# Altium schematic symbol library ICs.SchLib: 21 symbols
Pins are listed as number, name and electrical type; pins without a type are passive.

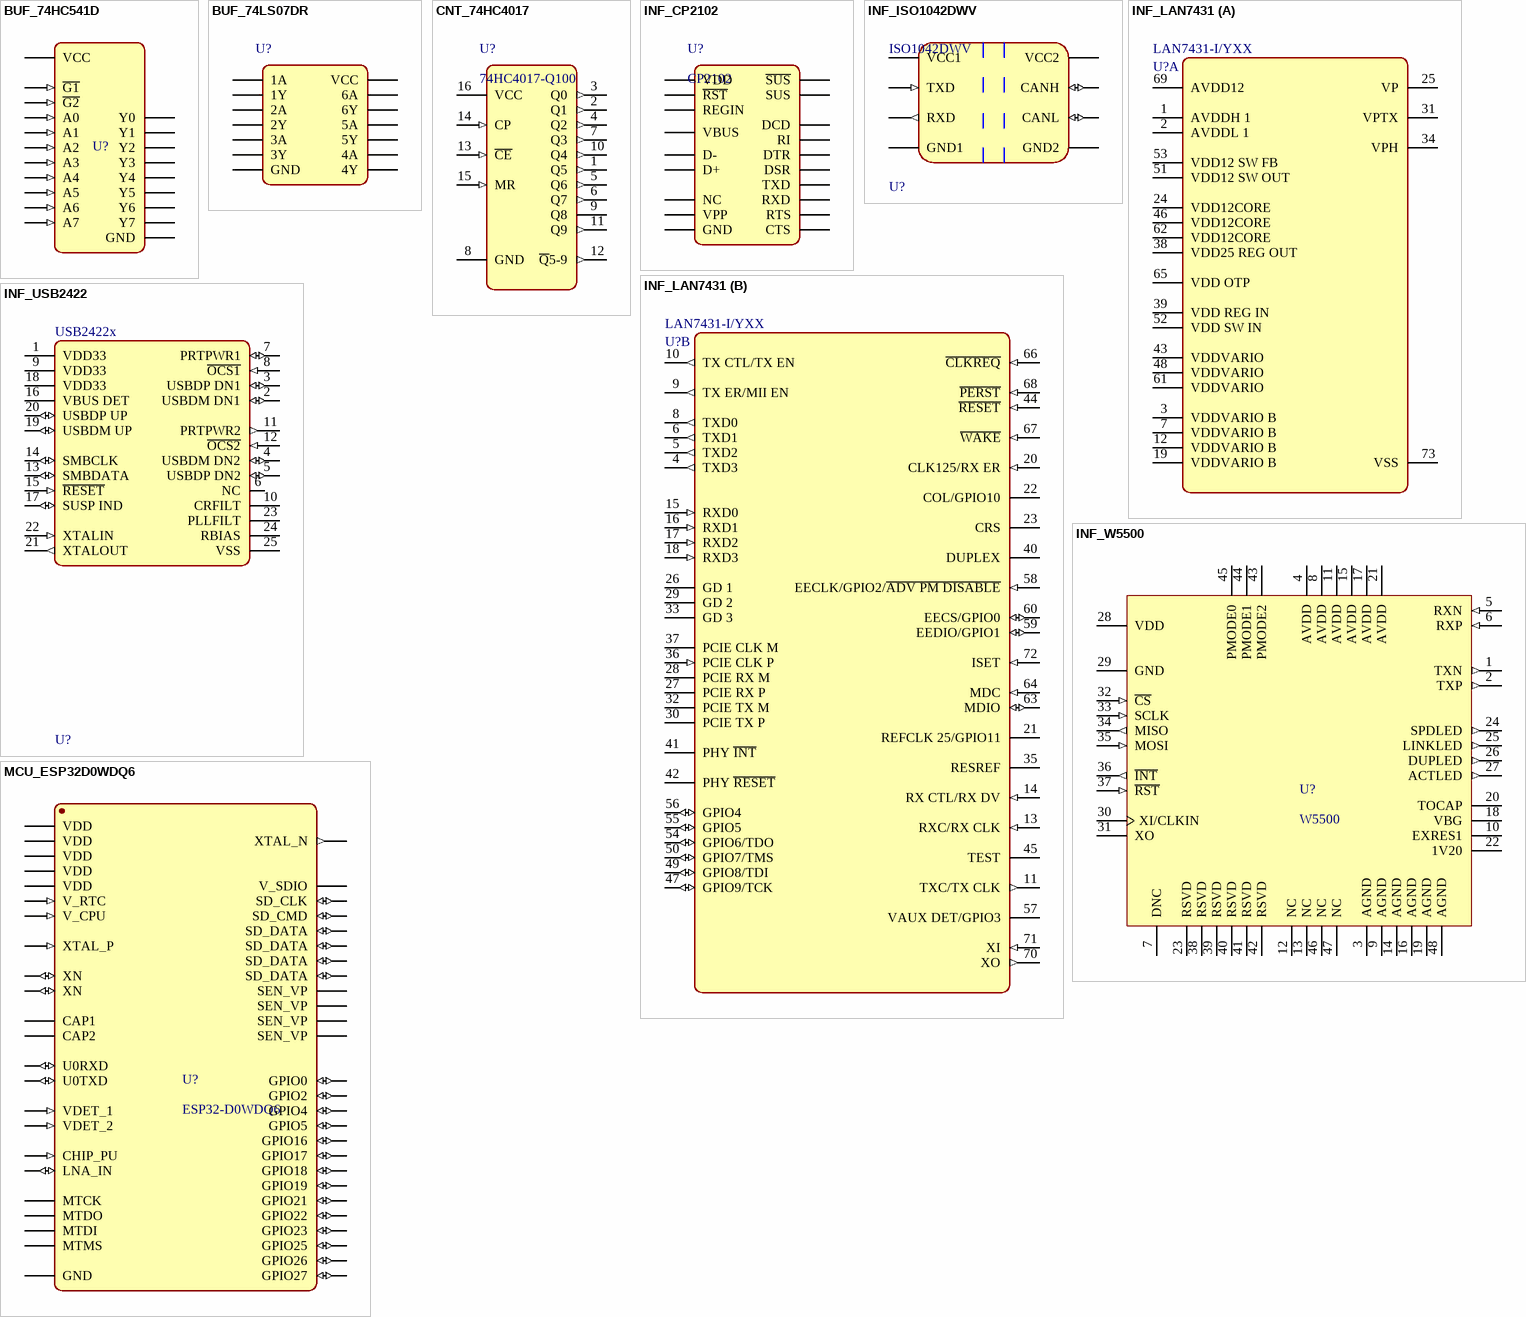
[diagram p0: symbols BUF_74HC541D to MCU_ESP32D0WDQ6]

## BUF_74HC541D
designator U?, comment 74HC541D  (value not drawn)
Buffer, Non-Inverting 8 Element 3-State Output 20-SOIC; JLCPCB Part: ?; LCSC Part: ?; Mrf. Part: ?
footprint BUF_74HC541D
pins: 1 ~{G1} (in), 2 A0 (in), 3 A1 (in), 4 A2 (in), 5 A3 (in), 6 A4 (in), 7 A5 (in), 8 A6 (in), 9 A7 (in), 10 GND (power), 11 Y7 (power), 12 Y6 (power), 13 Y5 (power), 14 Y4 (power), 15 Y3 (power), 16 Y2 (power), 17 Y1 (power), 18 Y0 (power), 19 ~{G2} (in), 20 VCC (power)

## BUF_74LS07DR
designator U?, comment SN74LS07DR  (value not drawn)
Buffer, Non-Inverting 6 Element Open Collector Output 14-SOIC; JLCPCB Part: ?; LCSC Part: ?; Mrf. Part: ?
footprint BUF_74LS07DR (SOIC, 14-Leads, Body 8.75x4mm, Pitch 1.27mm, IPC Low Density)
pins: 1 1A, 2 1Y, 3 2A, 4 2Y, 5 3A, 6 3Y, 7 GND, 8 4Y, 9 4A, 10 5Y, 11 5A, 12 6Y, 13 6A, 14 VCC

## CNT_74HC4017
designator U?, comment 74HC4017-Q100
Counter IC Counter, Decade 1 Element 10 Bit Positive, Negative 16-SO; Mrf. Part: ?; LCSC Part: ?; JLCPCB Part: ?
footprint CNT_74HC4017
pins: 1 Q5 (out), 2 Q1 (out), 3 Q0 (out), 4 Q2 (out), 5 Q6 (out), 6 Q7 (out), 7 Q3 (out), 8 GND (power), 9 Q8 (power), 10 Q4 (out), 11 Q9 (out), 12 ~{Q}5-9 (out), 13 ~{CE} (in), 14 CP (in), 15 MR (in), 16 VCC (power)

## INF_CP2102
designator U?, comment CP2102
USB to UART bridge USB 2.0 3.3V, CP2102-GMR, VFQFN-28; Mrf. Part: ?; LCSC Part: *; JLCPCB Part: ?
footprint INF_CP2102
pins: 1 DCD, 2 RI, 3 GND, 4 D+, 5 D-, 6 VDD, 7 REGIN, 8 VBUS, 9 ~{RST}, 10,13,14,15,16,17,19,20,21,22 NC, 11 ~{SUS}, 12 SUS, 18 VPP, 23 CTS, 24 RTS, 25 RXD, 26 TXD, 27 DSR, 28 DTR

## INF_ISO1042DWV
designator U?, comment ISO1042DWV
5Mbps Transceiver SOIC-8 CANFD Transceivers; JLCPCB Part: ?; LCSC Part: ?; Mfr. Part: ISO1042DWV
footprint INF_ISO1042DWV
pins: 1 VCC1 (power), 2 TXD (in), 3 RXD (out), 4 GND1 (power), 5 GND2 (power), 6 CANL (io), 7 CANH (io), 8 VCC2 (power)

## INF_LAN7431
designator U?, comment LAN7431-I/YXX
PCIe to Gigabit Ethernet Controller; JLCPCB  Part: ?; Mrf. Part: ?; LCSC Part: ?
footprint INF_LAN7431_IYXX
part A pins: 1 AVDDH 1 (power), 2 AVDDL 1 (power), 3 VDDVARIO B (power), 7 VDDVARIO B (power), 12 VDDVARIO B (power), 19 VDDVARIO B (power), 24 VDD12CORE (power), 25 VP, 31 VPTX, 34 VPH, 38 VDD25 REG OUT (power), 39 VDD REG IN (power), 43 VDDVARIO (power), 46 VDD12CORE (power), 48 VDDVARIO (power), 51 VDD12 SW OUT (power), 52 VDD SW IN (power), 53 VDD12 SW FB (power), 61 VDDVARIO (power), 62 VDD12CORE (power), 65 VDD OTP (power), 69 AVDD12 (power), 73 VSS (power)
part B pins: 4 TXD3 (out), 5 TXD2 (out), 6 TXD1 (out), 8 TXD0 (out), 9 TX ER/MII EN (out), 10 TX CTL/TX EN (out), 11 TXC/TX CLK (out), 13 RXC/RX CLK (in), 14 RX CTL/RX DV (in), 15 RXD0 (in), 16 RXD1 (in), 17 RXD2 (in), 18 RXD3 (in), 20 CLK125/RX ER (in), 21 REFCLK 25/GPIO11, 22 COL/GPIO10, 23 CRS, 26 GD 1, 27 PCIE RX P, 28 PCIE RX M, 29 GD 2, 30 PCIE TX P, 32 PCIE TX M, 33 GD 3, 35 RESREF, 36 PCIE CLK P (in), 37 PCIE CLK M (power), 40 DUPLEX, 41 PHY ~{INT}, 42 PHY ~{RESET}, 44 ~{RESET} (in), 45 TEST, 47 GPIO9/TCK (io), 49 GPIO8/TDI (io), 50 GPIO7/TMS (io), 54 GPIO6/TDO (io), 55 GPIO5 (io), 56 GPIO4 (io), 57 VAUX DET/GPIO3, 58 EECLK/GPIO2/~{ADV PM DISABLE} (in), 59 EEDIO/GPIO1 (io), 60 EECS/GPIO0 (io), 63 MDIO (io), 64 MDC (in), 66 ~{CLKREQ} (in), 67 ~{WAKE} (in), 68 ~{PERST} (in), 70 XO (out), 71 XI (in), 72 ISET (in)

## INF_USB2422
designator U?, comment USB2422x
USB 2.0 HUB CTLR 24QFN; JLCPCB Part: ?; LCSC Part: ?; Mrf. Part: ?
footprint INF_USB2422
pins: 1 VDD33 (power), 2 USBDM DN1 (io), 3 USBDP DN1 (io), 4 USBDM DN2 (io), 5 USBDP DN2 (io), 6 NC, 7 PRTPWR1 (io), 8 ~{OCS1} (in), 9 VDD33 (power), 10 CRFILT, 11 PRTPWR2 (out), 12 ~{OCS2} (in), 13 SMBDATA (io), 14 SMBCLK (io), 15 ~{RESET} (in), 16 VBUS DET (power), 17 SUSP IND (io), 18 VDD33 (power), 19 USBDM UP (io), 20 USBDP UP (io), 21 XTALOUT (out), 22 XTALIN (in), 23 PLLFILT, 24 RBIAS, 25 VSS (power)

## INF_W5500
designator U?, comment W5500
W5500 Ethernet Controller 10/100 Base-T/TX PHY SPI Interface
footprint INF_W5500 (QFP, 48-Leads, Body 7,00x7,00mm, Pitch 0,50mm, IPC Medium Density)
pins: 1 TXN (out), 2 TXP (out), 3 AGND (power), 4 AVDD (power), 5 RXN (in), 6 RXP (in), 7 DNC, 8 AVDD (power), 9 AGND (power), 10 EXRES1, 11 AVDD (power), 12 NC, 13 NC, 14 AGND (power), 15 AVDD (power), 16 AGND (power), 17 AVDD (power), 18 VBG (power), 19 AGND (power), 20 TOCAP, 21 AVDD (power), 22 1V20 (power), 23 RSVD, 24 SPDLED (out), 25 LINKLED (out), 26 DUPLED (out), 27 ACTLED (out), 28 VDD (power), 29 GND (power), 30 XI/CLKIN, 31 XO, 32 ~{CS} (in), 33 SCLK (in), 34 MISO (out), 35 MOSI (in), 36 ~{INT} (out), 37 ~{RST} (in), 38 RSVD, 39 RSVD, 40 RSVD, 41 RSVD, 42 RSVD, 43 PMODE2, 44 PMODE1, 45 PMODE0, 46 NC, 47 NC, 48 AGND (power)

## MCU_ESP32D0WDQ6
designator U?, comment ESP32-D0WDQ6
Xtensa® single-/dual-core 32-bit LX6 microprocessor(s); Mrf. Part: ?; LCSC Part: ?; JLCPCB Part: ?
footprint MCU_ESP32_D0WDQ6_V3
pins: 1 VDD, 2 LNA_IN (io), 3 VDD, 4 VDD, 5 SEN_VP, 6 SEN_VP, 7 SEN_VP, 8 SEN_VP, 9 CHIP_PU (in), 10 VDET_1 (in), 11 VDET_2 (in), 12 XN (io), 13 XN (io), 14 GPIO25 (io), 15 GPIO26 (io), 16 GPIO27 (io), 17 MTMS, 18 MTDI, 19 V_RTC (in), 20 MTCK, 21 MTDO, 22 GPIO2 (io), 23 GPIO0 (io), 24 GPIO4 (io), 25 GPIO16 (io), 26 V_SDIO (power), 27 GPIO17 (io), 28 SD_DATA (io), 29 SD_DATA (io), 30 SD_CMD (io), 31 SD_CLK (io), 32 SD_DATA (io), 33 SD_DATA (io), 34 GPIO5 (io), 35 GPIO18 (io), 36 GPIO23 (io), 37 V_CPU (in), 38 GPIO19 (io), 39 GPIO22 (io), 40 U0RXD (io), 41 U0TXD (io), 42 GPIO21 (io), 43 VDD, 44 XTAL_N (out), 45 XTAL_P (in), 46 VDD, 47 CAP2, 48 CAP1, 49 GND

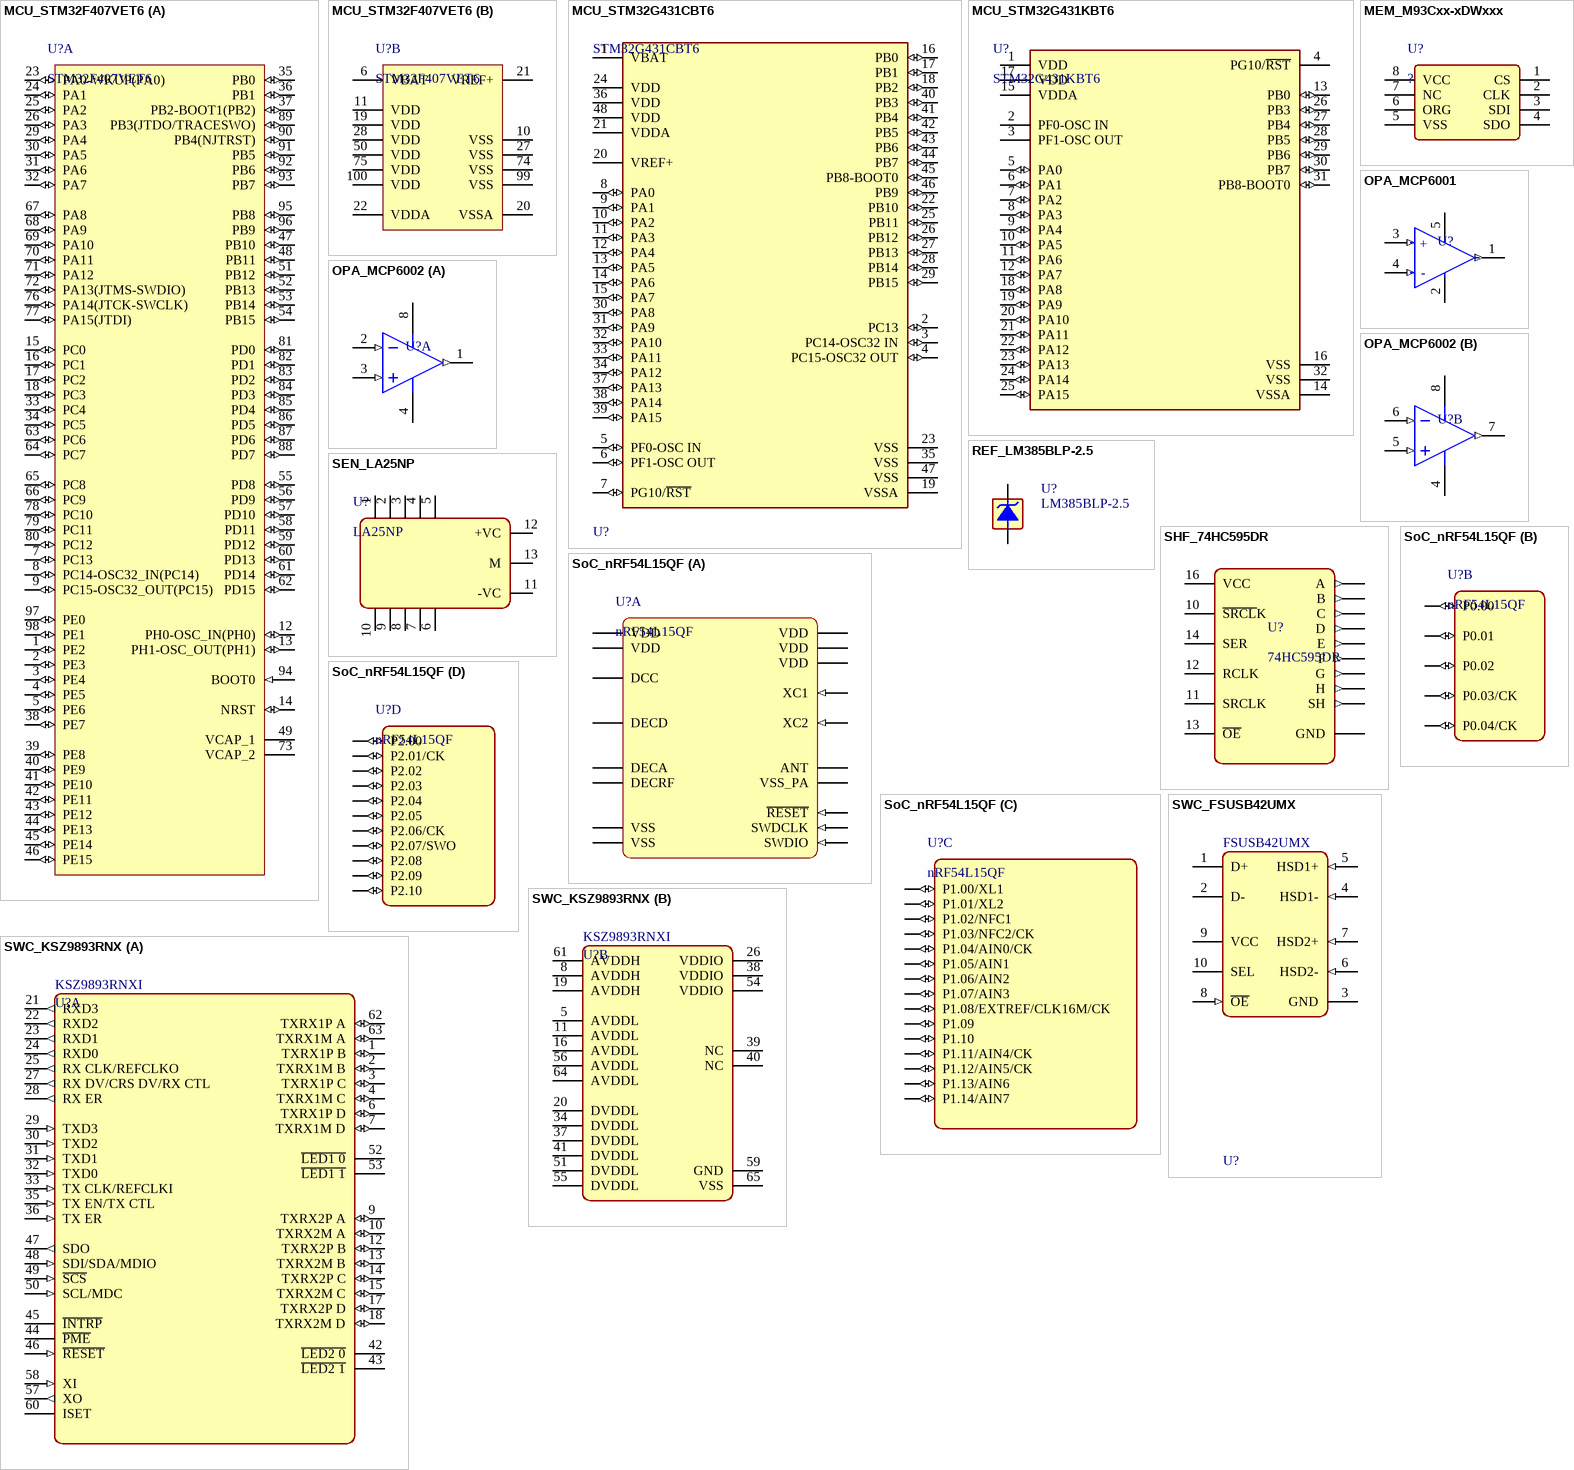
[diagram p1: symbols MCU_STM32F407VET6 to SWC_KSZ9893RNX]

## MCU_STM32F407VET6
designator U?, comment STM32F407VET6
ARM® Cortex®-M4 STM32F4 32-bit, 512 kB Flash, 192 kB Internal RAM, 82 I/Os, 100-pin LQFP; ComponentLink1URL: http://www.st.com/web/en/home.html; ComponentLink1Description: Manufacturer URL; ComponentLink2Description: Datasheet; ComponentLink2URL: http://www.st.com/st-web-ui/static/active/en/resource/technical/document/datasheet/DM00037051.pdf; ComponentLink3Description: Package Specification; ComponentLink3URL: http://www.st.com/st-web-ui/static/active/en/resource/technical/document/data_brief/DM00071938.pdf; JLCPCB Part: ?; MFR.Part: ?; LCSC Part: ?
footprint MCU_STM32F407VET6
part A pins: 1 PE2 (io) "PE2/TRACECLK/FSMC_A23/ETH_MII_TXD3/EVENTOUT", 2 PE3 (io) "PE3/TRACED0/FSMC_A19/EVENTOUT", 3 PE4 (io) "PE4/TRACED1/FSMC_A20/DCMI_D4/EVENTOUT", 4 PE5 (io) "PE5/TRACED2/FSMC_A21/TIM9_CH1/DCMI_D6/EVENTOUT", 5 PE6 (io) "PE6/TRACED3/FSMC_A22/TIM9_CH2/DCMI_D7/EVENTOUT", 7 PC13 (io) "PC13/EVENTOUT/RTC_OUT,RTC_TAMP1,RTC_TS", 8 PC14-OSC32_IN(PC14) (io) "PC14-OSC32_IN(PC14)/EVENTOUT/OSC32_IN", 9 PC15-OSC32_OUT(PC15) (io) "PC15-OSC32_OUT(PC15)/EVENTOUT/OSC32_OUT", 12 PH0-OSC_IN(PH0) (io) "PH0-OSC_IN(PH0)/EVENTOUT/OSC_IN", 13 PH1-OSC_OUT(PH1) (io) "PH1-OSC_OUT(PH1)/EVENTOUT/OSC_OUT", 14 NRST (io), 15 PC0 (io) "PC0/OTG_HS_ULPI_STP/EVENTOUT/ADC123_IN10", 16 PC1 (io) "PC1/ETH_MDC/EVENTOUT/ADC123_IN11", 17 PC2 (io) "PC2/SPI2_MISO/OTG_HS_ULPI_DIR/ETH_MII_TXD2/I2S2ext_SD/EVENTOUT/ADC123_IN12", 18 PC3 (io) "PC3/SPI2_MOSI/I2S2_SD/OTG_HS_ULPI_NXT/ETH_MII_TX_CLK/EVENTOUT/ADC123_IN13", 23 PA0-WKUP(PA0) (io) "PA0-WKUP(PA0)/USART2_CTS/UART4_TX/ETH_MII_CRS/TIM2_CH1_ETR/TIM5_CH1/TIM8_ETR/EVENTOUT/ADC123_IN0/WKUP", 24 PA1 (io) "PA1/USART2_RTS/UART4_RX/ETH_RMII_REF_CLK/ETH_MII_RX_CLK/TIM5_CH2/TIM2_CH2/EVENTOUT/ADC123_IN1", 25 PA2 (io) "PA2/USART2_TX/TIM5_CH3/TIM9_CH1/TIM2_CH3/ETH_MDIO/EVENTOUT/ADC123_IN2", 26 PA3 (io) "PA3/USART2_RX/TIM5_CH4/TIM9_CH2/TIM2_CH4/OTG_HS_ULPI_D0/ETH_MII_COL/EVENTOUT/ADC123_IN3", 29 PA4 (io) "PA4/SPI1_NSS/SPI3_NSS/USART2_CK/DCMI_HSYNC/OTG_HS_SOF/I2S3_WS/EVENTOUT/ADC12_IN4/DAC_OUT1", 30 PA5 (io) "PA5/SPI1_SCK/OTG_HS_ULPI_CK/TIM2_CH1_ETR/TIM8_CH1N/EVENTOUT/ADC12_IN5/DAC_OUT2", 31 PA6 (io) "PA6/SPI1_MISO/TIM8_BKIN/TIM13_CH1/DCMI_PIXCLK/TIM3_CH1/TIM1_BKIN/EVENTOUT/ADC12_IN6", 32 PA7 (io) "PA7/SPI1_MOSI/TIM8_CH1N/TIM14_CH1/TIM3_CH2/ETH_MII_RX_DV/TIM1_CH1N/ETH_RMII_CRS_DV/EVENTOUT/ADC12_IN7", 33 PC4 (io) "PC4/ETH_RMII_RX_D0/ETH_MII_RX_D0/EVENTOUT/ADC12_IN14", 34 PC5 (io) "PC5/ETH_RMII_RX_D1/ETH_MII_RX_D1/EVENTOUT/ADC12_IN15", 35 PB0 (io) "PB0/TIM3_CH3/TIM8_CH2N/OTG_HS_ULPI_D1/ETH_MII_RXD2/TIM1_CH2N/EVENTOUT/ADC12_IN8", 36 PB1 (io) "PB1/TIM3_CH4/TIM8_CH3N/OTG_HS_ULPI_D2/ETH_MII_RXD3/TIM1_CH3N/EVENTOUT/ADC12_IN9", 37 PB2-BOOT1(PB2) (io) "PB2-BOOT1(PB2)/EVENTOUT", 38 PE7 (io) "PE7/FSMC_D4/TIM1_ETR/EVENTOUT", 39 PE8 (io) "PE8/FSMC_D5/TIM1_CH1N/EVENTOUT", 40 PE9 (io) "PE9/FSMC_D6/TIM1_CH1/EVENTOUT", 41 PE10 (io) "PE10/FSMC_D7/TIM1_CH2N/EVENTOUT", 42 PE11 (io) "PE11/FSMC_D8/TIM1_CH2/EVENTOUT", 43 PE12 (io) "PE12/FSMC_D9/TIM1_CH3N/EVENTOUT", 44 PE13 (io) "PE13/FSMC_D10/TIM1_CH3/EVENTOUT", 45 PE14 (io) "PE14/FSMC_D11/TIM1_CH4/EVENTOUT", 46 PE15 (io) "PE15/FSMC_D12/TIM1_BKIN/EVENTOUT", 47 PB10 (io) "PB10/SPI2_SCK/I2S2_CK/I2C2_SCL/USART3_TX/OTG_HS_ULPI_D3/ETH_MII_RX_ER/TIM2_CH3/EVENTOUT", 48 PB11 (io) "PB11/I2C2_SDA/USART3_RX/OTG_HS_ULPI_D4/ETH_RMII_TX_EN/ETH_MII_TX_EN/TIM2_CH4/EVENTOUT", 49 VCAP_1 (power), 51 PB12 (io) "PB12/SPI2_NSS/I2S2_WS/I2C2_SMBA/USART3_CK/TIM1_BKIN/CAN2_RX/OTG_HS_ULPI_D5/ETH_RMII_TXD0/ETH_MII_TXD0/OTG_HS_ID/EVENTOUT", 52 PB13 (io) "PB13/SPI2_SCK/I2S2_CK/USART3_CTS/TIM1_CH1N/CAN2_TX/OTG_HS_ULPI_D6/ETH_RMII_TXD1/ETH_MII_TXD1/EVENTOUT/OTG_HS_VBUS", 53 PB14 (io) "PB14/SPI2_MISO/TIM1_CH2N/TIM12_CH1/OTG_HS_DM/USART3_RTS/TIM8_CH2N/I2S2ext_SD/EVENTOUT", 54 PB15 (io) "PB15/SPI2_MOSI/I2S2_SD/TIM1_CH3N/TIM8_CH3N/TIM12_CH2/OTG_HS_DP/EVENTOUT/RTC_REFIN", 55 PD8 (io) "PD8/FSMC_D13/USART3_TX/EVENTOUT", 56 PD9 (io) "PD9/FSMC_D14/USART3_RX/EVENTOUT", 57 PD10 (io) "PD10/FSMC_D15/USART3_CK/EVENTOUT", 58 PD11 (io) "PD11/FSMC_CLE/FSMC_A16/USART3_CTS/EVENTOUT", 59 PD12 (io) "PD12/FSMC_ALE/FSMC_A17/TIM4_CH1/USART3_RTS/EVENTOUT", 60 PD13 (io) "PD13/FSMC_A18/TIM4_CH2/EVENTOUT", 61 PD14 (io) "PD14/FSMC_D0/TIM4_CH3/EVENTOUT", 62 PD15 (io) "PD15/FSMC_D1/TIM4_CH4/EVENTOUT", 63 PC6 (io) "PC6/I2S2_MCK/TIM8_CH1/SDIO_D6/USART6_TX/DCMI_D0/TIM3_CH1/EVENTOUT", 64 PC7 (io) "PC7/I2S3_MCK/TIM8_CH2/SDIO_D7/USART6_RX/DCMI_D1/TIM3_CH2/EVENTOUT", 65 PC8 (io) "PC8/TIM8_CH3/SDIO_D0/TIM3_CH3/USART6_CK/DCMI_D2/EVENTOUT", 66 PC9 (io) "PC9/I2S_CKIN/MCO2/TIM8_CH4/SDIO_D1/I2C3_SDA/DCMI_D3/TIM3_CH4/EVENTOUT", 67 PA8 (io) "PA8/MCO1/USART1_CK/TIM1_CH1/I2C3_SCL/OTG_FS_SOF/EVENTOUT", 68 PA9 (io) "PA9/USART1_TX/TIM1_CH2/I2C3_SMBA/DCMI_D0/EVENTOUT/OTG_FS_VBUS", 69 PA10 (io) "PA10/USART1_RX/TIM1_CH3/OTG_FS_ID/DCMI_D1/EVENTOUT", 70 PA11 (io) "PA11/USART1_CTS/CAN1_RX/TIM1_CH4/OTG_FS_DM/EVENTOUT", 71 PA12 (io) "PA12/USART1_RTS/CAN1_TX/TIM1_ETR/OTG_FS_DP/EVENTOUT", 72 PA13(JTMS-SWDIO) (io) "PA13(JTMS-SWDIO)/JTMS-SWDIO/EVENTOUT", 73 VCAP_2 (power), 76 PA14(JTCK-SWCLK) (io) "PA14(JTCK-SWCLK)/JTCK-SWCLK/EVENTOUT", 77 PA15(JTDI) (io) "PA15(JTDI)/JTDI/SPI3_NSS/I2S3_WS/TIM2_CH1_ETR/SPI1_NSS/EVENTOUT", 78 PC10 (io) "PC10/SPI3_SCK/I2S3_CK/UART4_TX/SDIO_D2/DCMI_D8/USART3_TX/EVENTOUT", 79 PC11 (io) "PC11/UART4_RX/SPI3_MISO/SDIO_D3/DCMI_D4/USART3_RX/I2S3ext_SD/EVENTOUT", 80 PC12 (io) "PC12/UART5_TX/SDIO_CK/DCMI_D9/SPI3_MOSI/I2S3_SD/USART3_CK/EVENTOUT", 81 PD0 (io) "PD0/FSMC_D2/CAN1_RX/EVENTOUT", 82 PD1 (io) "PD1/FSMC_D3/CAN1_TX/EVENTOUT", 83 PD2 (io) "PD2/TIM3_ETR/UART5_RX/SDIO_CMD/DCMI_D11/EVENTOUT", 84 PD3 (io) "PD3/FSMC_CLK/USART2_CTS/EVENTOUT", 85 PD4 (io) "PD4/FSMC_NOE/USART2_RTS/EVENTOUT", 86 PD5 (io) "PD5/FSMC_NWE/USART2_TX/EVENTOUT", 87 PD6 (io) "PD6/FSMC_NWAIT/USART2_RX/EVENTOUT", 88 PD7 (io) "PD7/USART2_CK/FSMC_NE1/FSMC_NCE2/EVENTOUT", 89 PB3(JTDO/TRACESWO) (io) "PB3(JTDO/TRACESWO)/JTDO/TRACESWO/SPI3_SCK/I2S3_CK/TIM2_CH2/SPI1_SCK/EVENTOUT", 90 PB4(NJTRST) (io) "PB4(NJTRST)/NJTRST/SPI3_MISO/TIM3_CH1/SPI1_MISO/I2S3ext_SD/EVENTOUT", 91 PB5 (io) "PB5/I2C1_SMBA/CAN2_RX/OTG_HS_ULPI_D7/ETH_PPS_OUT/TIM3_CH2/SPI1_MOSI/SPI3_MOSI/DCMI_D10/I2S3_SD/EVENTOUT", 92 PB6 (io) "PB6/I2C1_SCL/TIM4_CH1/CAN2_TX/DCMI_D5/USART1_TX/EVENTOUT", 93 PB7 (io) "PB7/I2C1_SDA/FSMC_NL/DCMI_VSYNC/USART1_RX/TIM4_CH2/EVENTOUT", 94 BOOT0 (in) "BOOT0/VPP", 95 PB8 (io) "PB8/TIM4_CH3/SDIO_D4/TIM10_CH1/DCMI_D6/ETH_MII_TXD3/I2C1_SCL/CAN1_RX/EVENTOUT", 96 PB9 (io) "PB9/SPI2_NSS/I2S2_WS/TIM4_CH4/TIM11_CH1/SDIO_D5/DCMI_D7/I2C1_SDA/CAN1_TX/EVENTOUT", 97 PE0 (io) "PE0/TIM4_ETR/FSMC_NBL0/DCMI_D2/EVENTOUT", 98 PE1 (io) "PE1/FSMC_NBL1/DCMI_D3/EVENTOUT"
part B pins: 6 VBAT (power), 10 VSS (power), 11 VDD (power), 19 VDD (power), 20 VSSA (power), 21 VREF+ (power), 22 VDDA (power), 27 VSS (power), 28 VDD (power), 50 VDD (power), 74 VSS (power), 75 VDD (power), 99 VSS (power), 100 VDD (power)

## MCU_STM32G431CBT6
designator U?, comment STM32G431CBT6
ARM® Cortex®-M4F STM32G4 Microcontroller IC 32-Bit Single-Core 170MHz 128KB (128K x 8) FLASH 48-LQFP (7x7); ComponentLink2Description: Datasheet; ComponentLink2URL: https://www.st.com/resource/en/datasheet/stm32g431cb.pdf; JLCPCB Part: ?; MFR.Part: ?; LCSC Part: ?
footprint MCU_STM32G431CBT6
pins: 1 VBAT (power), 2 PC13 (io), 3 PC14-OSC32 IN (io), 4 PC15-OSC32 OUT (io), 5 PF0-OSC IN (io), 6 PF1-OSC OUT (io), 7 PG10/~{RST} (io), 8 PA0 (io), 9 PA1 (io), 10 PA2 (io), 11 PA3 (io), 12 PA4 (io), 13 PA5 (io), 14 PA6 (io), 15 PA7 (io), 16 PB0 (io), 17 PB1 (io), 18 PB2 (io), 19 VSSA (power), 20 VREF+ (power), 21 VDDA (power), 22 PB10 (io), 23 VSS (power), 24 VDD (power), 25 PB11 (io), 26 PB12 (io), 27 PB13 (io), 28 PB14 (io), 29 PB15 (io), 30 PA8 (io), 31 PA9 (io), 32 PA10 (io), 33 PA11 (io), 34 PA12 (io), 35 VSS (power), 36 VDD (power), 37 PA13 (io), 38 PA14 (io), 39 PA15 (io), 40 PB3 (io), 41 PB4 (io), 42 PB5 (io), 43 PB6 (io), 44 PB7 (io), 45 PB8-BOOT0 (io), 46 PB9 (io), 47 VSS (power), 48 VDD (power)

## MCU_STM32G431KBT6
designator U?, comment STM32G431KBT6
ARM® Cortex®-M4F STM32G4 Microcontroller IC 32-Bit Single-Core 170MHz 128KB (128K x 8) FLASH 32-LQFP (7x7); JLCPCB Part: ?; MFR.Part: ?; LCSC Part: ?
footprint MCU_STM32G431KBT6
pins: 1 VDD (power), 2 PF0-OSC IN, 3 PF1-OSC OUT, 4 PG10/~{RST}, 5 PA0 (io), 6 PA1 (io), 7 PA2 (io), 8 PA3 (io), 9 PA4 (io), 10 PA5 (io), 11 PA6 (io), 12 PA7 (io), 13 PB0 (io), 14 VSSA (power), 15 VDDA (power), 16 VSS (power), 17 VDD (power), 18 PA8 (io), 19 PA9 (io), 20 PA10 (io), 21 PA11 (io), 22 PA12 (io), 23 PA13 (io), 24 PA14 (io), 25 PA15 (io), 26 PB3 (io), 27 PB4 (io), 28 PB5 (io), 29 PB6 (io), 30 PB7 (io), 31 PB8-BOOT0 (io), 32 VSS (power)

## MEM_M93Cxx-xDWxxx
designator U?, comment ?
EEPROM, Serial Microwire, 16 Kbit, 2K x 8bit, 1K x 16bit, 2 MHz, 8 Pins, SOIC N; Mrf. Part: ?; LCSC Part: ?; JLCPCB Part: ?; Name: ?
footprint MEM_M93Cxx-xDW
pins: 1 CS, 2 CLK, 3 SDI, 4 SDO, 5 VSS, 6 ORG, 7 NC, 8 VCC

## OPA_MCP6001
designator U?, comment MCP6001  (value not drawn)
OPAMP 1 Circuit Rail-to-Rail; JLCPCB Part: ?; LCSC Part: ?; Mrf. Part: ?
footprint OPA_MCP6001
pins: 1 VOUT (out), 2 VSS (power), 3 VIN+ (in), 4 VIN- (in), 5 VDD (power)
text: +; -

## OPA_MCP6002
designator U?, comment MCP6002  (value not drawn)
OPAMP 2 Circuit Rail-to-Rail; JLCPCB Part: ?; LCSC Part: ?; Mrf. Part: ?
footprint OPA_MCP6002
part A pins: 1 VOUTA (out), 2 VINA- (in), 3 VINA+ (in), 4 VSS (power), 8 VDD (power)
part B pins: 4 VSS (power), 5 VINB+ (in), 6 VINB- (in), 7 VOUTB (out), 8 VDD (power)

## REF_LM385BLP-2.5
designator U?, comment LM385BLP-2.5
Voltage Reference Diode, 3-pin TO-92; Manufacturer: National Semiconductor; PackageTopMarking: NSXYTT*LM385*BZ1.2; CompType: Voltage Reference IC; PowerWise: N; Code_JEDEC: TO-226-AA; DatasheetVersion: Jan-2008; ComponentLink2Description: LM385-1.2 Web Page; ComponentLink3Description: Z03A Package Page; RoHS: Y; ComponentLink2URL: http://www.national.com/pf/LM/LM385-1.2.html; ComponentLink3URL: http://www.national.com/packaging/folders/z03a.html; RevisionNote: Component URLs added; ComponentLink1URL: http://www.national.com/ds/LM/LM385-1.2.pdf; PackageReference: Z03A; ComponentLink1Description: LM385-1.2 Datasheet; PinCount: 3; PackageVersion: revG, Sep-2000; PackageDescription: TO-92, Molded, 3 Lead
footprint REF_LM385BLP-2.5
pins: 1 Anode, 2 Cathode, 3

## SEN_LA25NP
designator U?, comment LA25NP
Current Sensor 5A, 6A, 8A, 12A, 25A (Selectable) 1 Channel Hall Effect Module; Manufacturer_Name: LEM; Manufacturer_Part_Number: LA25-NP; Datasheet Link: http://uk.farnell.com/lem/la-25-np/current-transducer-25a-pcb/dp/1617404; Height: 16mm
footprint SEN_LA25NP
pins: 1, 2, 3, 4, 5, 6, 7, 8, 9, 10, 11 -VC, 12 +VC, 13 M

## SHF_74HC595DR
designator U?, comment 74HC595DR
2 V to 6 V, 8-bit serial-in, parallel-out shift, 3-State Output; Mrf. Part: ?; JLCPCB  Part: ?; LSCS Part: ?
footprint SHF_74HC595
pins: 1 B (out), 2 C (out), 3 D (out), 4 E (out), 5 F (out), 6 G (out), 7 H (out), 8 GND, 9 SH (out), 10 ~{SRCL}K, 11 SRCLK, 12 RCLK, 13 ~{OE}, 14 SER, 15 A (out), 16 VCC

## SoC_nRF54L15QF
designator U?, comment nRF54L15QF
SoC Ultra-low power Bluetooth Multiprotocol 5.4; Mrf. Part: ?; LCSC Part: ?; JLCPCB Part: ?
footprint SoC_nRF54LxxQF
part A pins: 10 VDD, 22 VDD, 25 SWDIO (in), 26 SWDCLK (in), 30 ~{RESET} (in), 31 ANT, 32 VSS_PA, 33 DECRF, 34 XC1 (in), 35 XC2 (in), 36 VDD, 43 DECA, 44 VSS, 45 DECD, 46 DCC, 47 VDD, 48 VDD, 49 VSS
part B pins: 23 P0.00 (io), 24 P0.01 (io), 27 P0.02 (io), 28 P0.03/CK (io), 29 P0.04/CK (io)
part C pins: 1 P1.00/XL1 (io), 2 P1.01/XL2 (io), 3 P1.02/NFC1 (io), 4 P1.03/NFC2/CK (io), 5 P1.04/AIN0/CK (io), 6 P1.05/AIN1 (io), 7 P1.06/AIN2 (io), 8 P1.07/AIN3 (io), 9 P1.08/EXTREF/CLK16M/CK (io), 37 P1.09 (io), 38 P1.10 (io), 39 P1.11/AIN4/CK (io), 40 P1.12/AIN5/CK (io), 41 P1.13/AIN6 (io), 42 P1.14/AIN7 (io)
part D pins: 11 P2.00 (io), 12 P2.01/CK (io), 13 P2.02 (io), 14 P2.03 (io), 15 P2.04 (io), 16 P2.05 (io), 17 P2.06/CK (io), 18 P2.07/SWO (io), 19 P2.08 (io), 20 P2.09 (io), 21 P2.10 (io)

## SWC_FSUSB42UMX
designator U?, comment FSUSB42UMX
USB2.0 Switch 2-Port; JLCPCB  Part: ?; LCSC Part: ?; Mrf. Part: ?
footprint SWC_FSUSB42UMX
pins: 1 D+, 2 D-, 3 GND (power), 4 HSD1- (in), 5 HSD1+ (in), 6 HSD2- (in), 7 HSD2+ (in), 8 ~{OE} (in), 9 VCC (power), 10 SEL

## SWC_KSZ9893RNX
designator U?, comment KSZ9893RNXI
ETHERNET SWITCH 3-PORT 64VQFN; JLCPCB  Part: ?; LCSC Part: ?; Mrf. Part: ?
footprint SWC_KSZ9893RNX
part A pins: 1 TXRX1P B (io), 2 TXRX1M B (io), 3 TXRX1P C (io), 4 TXRX1M C (io), 6 TXRX1P D (io), 7 TXRX1M D (io), 9 TXRX2P A (io), 10 TXRX2M A (io), 12 TXRX2P B (io), 13 TXRX2M B (io), 14 TXRX2P C (io), 15 TXRX2M C (io), 17 TXRX2P D (io), 18 TXRX2M D (io), 21 RXD3 (out), 22 RXD2 (out), 23 RXD1 (out), 24 RXD0 (out), 25 RX CLK/REFCLKO (out), 27 RX DV/CRS DV/RX CTL (out), 28 RX ER (out), 29 TXD3 (in), 30 TXD2 (in), 31 TXD1 (in), 32 TXD0 (in), 33 TX CLK/REFCLKI (in), 35 TX EN/TX CTL (in), 36 TX ER (in), 42 ~{LED2 0}, 43 ~{LED2 1}, 44 ~{PME}, 45 ~{INTRP}, 46 ~{RESET} (in), 47 SDO (out), 48 SDI/SDA/MDIO (in), 49 ~{SCS} (in), 50 SCL/MDC (in), 52 ~{LED1 0}, 53 ~{LED1 1}, 57 XO (out), 58 XI (in), 60 ISET, 62 TXRX1P A (io), 63 TXRX1M A (io)
part B pins: 5 AVDDL (power), 8 AVDDH (power), 11 AVDDL (power), 16 AVDDL (power), 19 AVDDH (power), 20 DVDDL (power), 26 VDDIO (power), 34 DVDDL (power), 37 DVDDL (power), 38 VDDIO (power), 39 NC, 40 NC, 41 DVDDL (power), 51 DVDDL (power), 54 VDDIO (power), 55 DVDDL (power), 56 AVDDL (power), 59 GND (power), 61 AVDDH (power), 64 AVDDL (power), 65 VSS (power)